# Altium footprint library DFN2510A-10.PcbLib: 1 footprints
Each footprint in its own frame and in the unit in brackets; x right, y up, seen from the top. Pads: shape width x height; smd on the part's side, far side on the other; paste and mask are expansions set on the pad; w line width, h text height; cw(c..) or ccw(c..) is an arc to the next point about the centre after c.
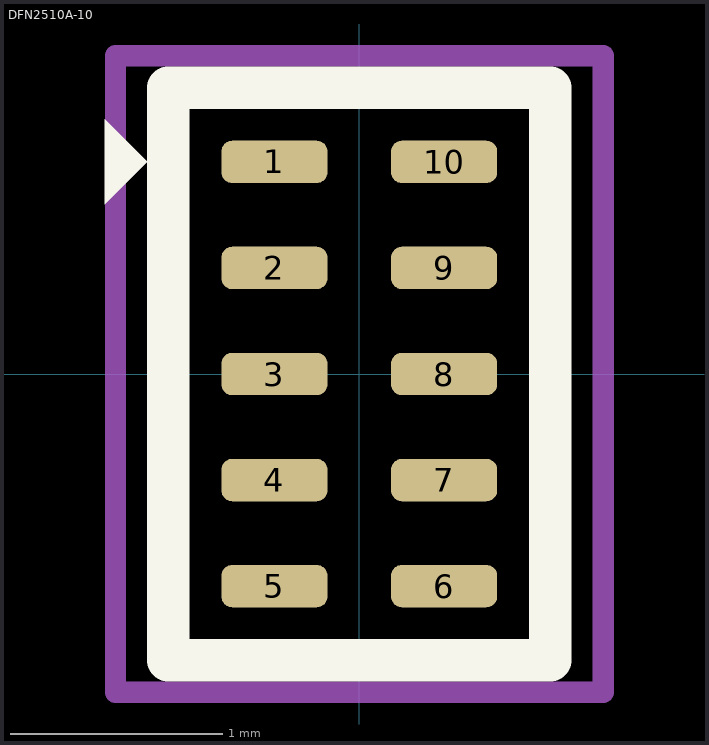
[diagram p0: the footprint, top view; thin cyan lines are the x and y axes]

## DFN2510A-10 [mm]
pads (10):
  rrect50% 0.5x0.2 smd: 1(-0.4,1) 2(-0.4,0.5) 3(-0.4,0) 4(-0.4,-0.5) 5(-0.4,-1) 6(0.4,-1) 7(0.4,-0.5) 8(0.4,0) 9(0.4,0.5) 10(0.4,1)
Top Overlay:
  region: -1.2,0.8 -1.2,1.2 -1,1
  lines w0.2: -0.9,-1.35 -0.9,1.35 0.9,1.35 0.9,-1.35 -0.9,-1.35
Top Courtyard:
  lines w0.1: -1.15,-1.5 -0.5,-1.5 1.15,-1.5 1.15,1.5 -1.15,1.5 -1.15,-1.5
3D body "PUSB3FA1Z.STEP": height 0.5, standoff 0, extent -0.5,-1.25 0.5,1.25